# Altium schematic symbol library Diode_Diodes_1N4148W-7-F_2A.SchLib: 1 symbol
Pins are listed as number, name and electrical type; pins without a type are passive.

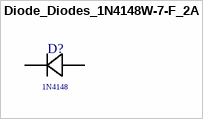
[diagram p0: symbol Diode_Diodes_1N4148W-7-F_2A]

## Diode_Diodes_1N4148W-7-F_2A
designator D?  Series: 1N4148  (hidden comment: Diode_Diodes_1N4148W-7-F_2A)
Diodes - General Purpose, Power, Switching SURFACE MOUNT FAST SWITCHING DIODE; Supplier 1: Mouser; Supplier Part Number 1: 621-1N4148W-F
footprint Diode_Diodes_1N4148W-7-F_2A
pins: 1, 2